# EAGLE library part SCHA4B0400 (library alps)
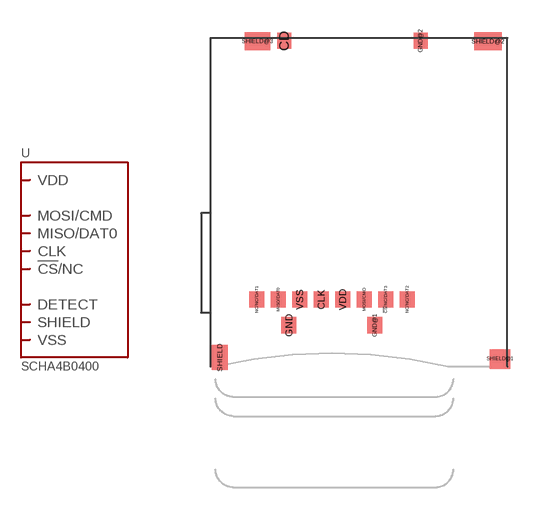
[diagram p1: symbol with the pads of SCHA4B0400; footprint SCHA4B0400]

Designator prefix U

## SCHA4B0400  [SCHA4B0400]
!CS!/NC/DAT3  !CS!/NC
CD  DETECT
CLK  CLK
GND  VSS
GND@1  VSS
GND@2  VSS
MISO/DAT0  MISO/DAT0
MOSI/CMD  MOSI/CMD
SHIELD  SHIELD
SHIELD@1  SHIELD
SHIELD@2  SHIELD
SHIELD@3  SHIELD
VDD  VDD
VSS  VSS

## Footprint SCHA4B0400 (pad centres in mm)
smd 0.7 x 0.75: !CS!/NC/DAT3 8.162,3.125; CLK 5.162,3.125; GND 3.663,1.925; GND@1 7.662,1.925; MISO/DAT0 3.163,3.125; MOSI/CMD 7.162,3.125; NC/NC/DAT1 2.163,3.125; NC/NC/DAT2 9.162,3.125; VDD 6.162,3.125; VSS 4.162,3.125
smd 0.65 x 0.75: CD 3.438,15.175; GND@2 9.787,15.175
smd 0.745 x 1.15: SHIELD 0.453,0.425
smd 0.95 x 0.9: SHIELD@1 13.488,0.35
smd 1.3 x 0.85: SHIELD@2 12.925,15.15
smd 1.2 x 0.85: SHIELD@3 2.2,15.15